# Altium footprint library SOIC127P1150X355-6N.PcbLib: 1 footprints
Each footprint in its own frame and in the unit in brackets; x right, y up, seen from the top. Pads: shape width x height; smd on the part's side, far side on the other; paste and mask are expansions set on the pad; w line width, h text height; cw(c..) or ccw(c..) is an arc to the next point about the centre after c.
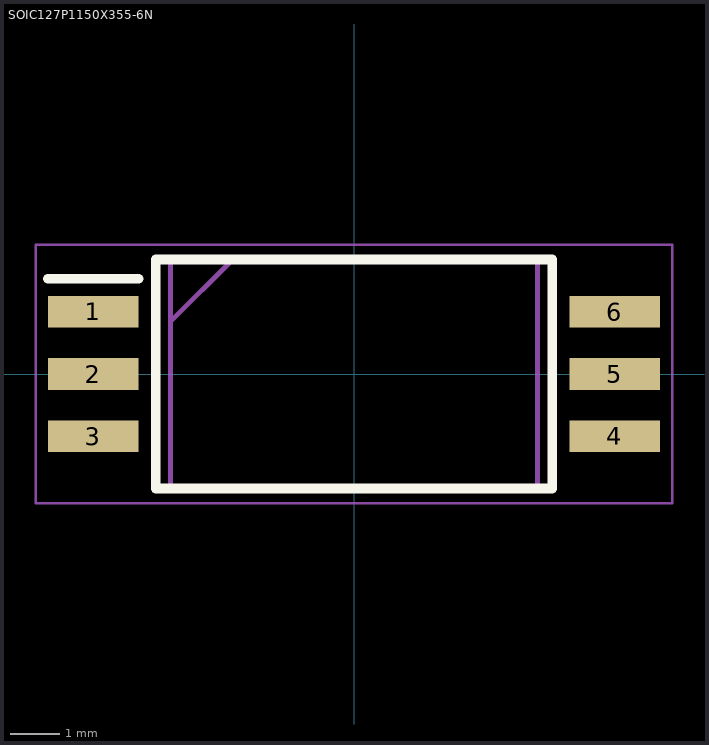
[diagram p0: the footprint, top view; thin cyan lines are the x and y axes]

## SOIC127P1150X355-6N [mm]
pads (6):
  rect 1.85x0.65 smd: 1(-5.325,1.27) 2(-5.325,0) 3(-5.325,-1.27) 4(5.325,-1.27) 5(5.325,0) 6(5.325,1.27)
Top Overlay:
  lines w0.2: -6.25,1.945 -4.4,1.945 ; -4.05,-2.34 4.05,-2.34 4.05,2.34 -4.05,2.34 -4.05,-2.34
Mechanical 15:
  lines w0.1: -3.75,1.07 -2.48,2.34 ; -3.75,-2.34 3.75,-2.34 3.75,2.34 -3.75,2.34 -3.75,-2.34
Mechanical 20:
  lines w0.05: -6.5,-2.64 6.5,-2.64 6.5,2.64 -6.5,2.64 -6.5,-2.64